# Altium integrated library ENCE461_18_2.IntLib: 16 symbols
Pins are listed as number, name and electrical type; pins without a type are passive.

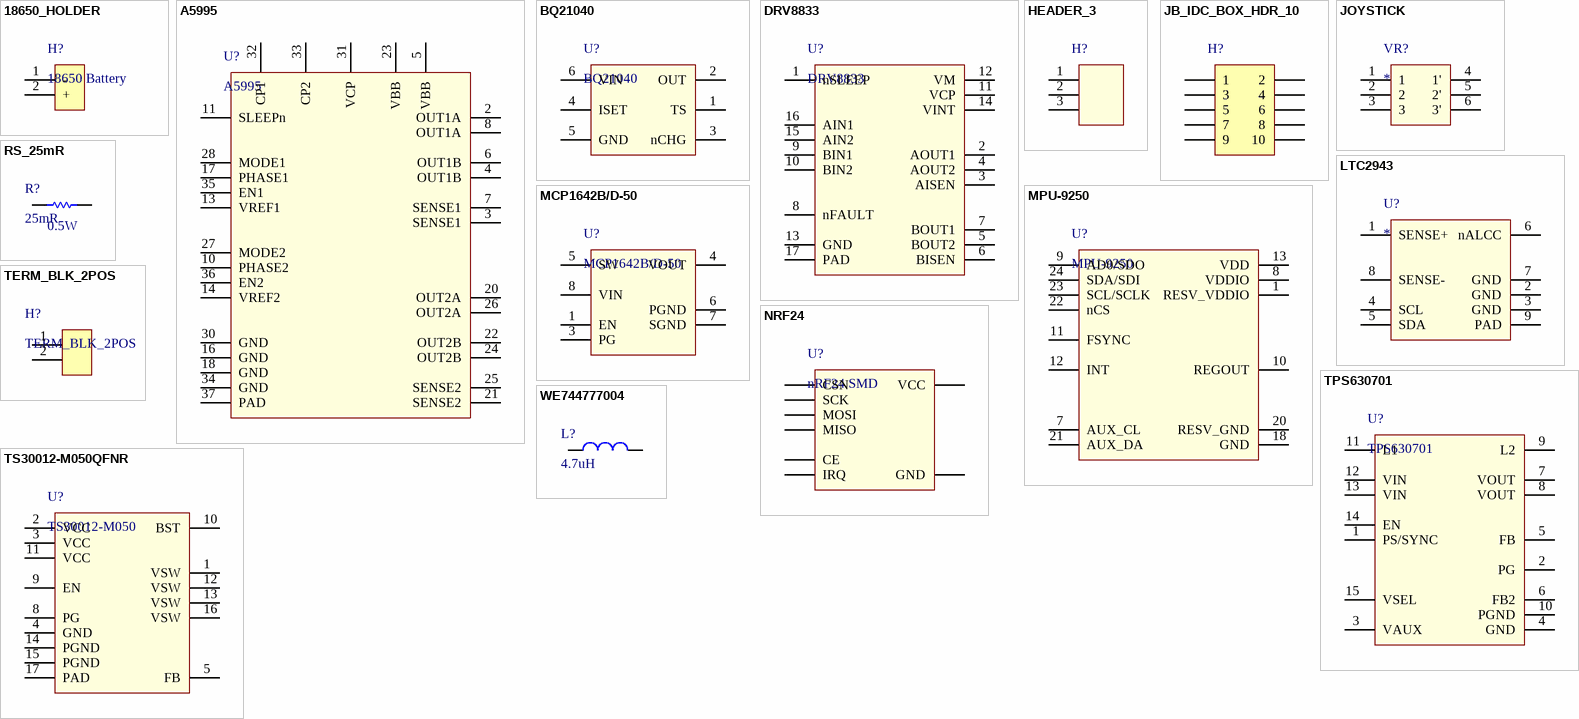
[diagram p0: symbols 18650_HOLDER to WE744777004]

## 18650_HOLDER
designator H?, comment 18650 Battery
18650 Battery Holder
footprint 18650_HOLDER
pins: 1 -, 2 +

## A5995
designator U?
Dual 3.5A Motor Driver
footprint Quad36
pins: 2 OUT1A, 3 SENSE1, 4 OUT1B, 5 VBB, 6 OUT1B, 7 SENSE1, 8 OUT1A, 10 PHASE2, 11 SLEEPn, 13 VREF1, 14 VREF2, 16 GND, 17 PHASE1, 18 GND, 20 OUT2A, 21 SENSE2, 22 OUT2B, 23 VBB, 24 OUT2B, 25 SENSE2, 26 OUT2A, 27 MODE2, 28 MODE1, 30 GND, 31 VCP, 32 CP1, 33 CP2, 34 GND, 35 EN1, 36 EN2, 37 PAD

## BQ21040
designator U?
USB Li-po/ion Charger
footprint SOT23-6 (SOT-23/SC-74A; 6 Leads; Body 3 x 3 mm, inc. leads (LxW max))
pins: 1 TS, 2 OUT, 3 nCHG, 4 ISET, 5 GND, 6 VIN

## DRV8833
designator U?
Dual H-Bridge Motor Driver 1.5A
footprint HTSOP16
pins: 1 nSLEEP, 2 AOUT1, 3 AISEN, 4 AOUT2, 5 BOUT2, 6 BISEN, 7 BOUT1, 8 nFAULT, 9 BIN1, 10 BIN2, 11 VCP, 12 VM, 13 GND, 14 VINT, 15 AIN2, 16 AIN1, 17 PAD

## HEADER_3
designator H?  (value not drawn)
3Pin Header 2.54mm spacing
footprint HEADER_3POS
pins: 1, 2, 3

## JB_IDC_BOX_HDR_10
designator H?  (value not drawn)
IDC BOX HEADER 2.54mm 10POS SMT; Manufacturer: CNC Tech; Manufacturer Part Number: 3020-10-0300-00; Connector Type: Header, Shrouded; Number of Positions: 10; Pitch: 0.100" (2.54mm); Supplier 1: Digi-Key; Contact Type: Male Pin; Number of Rows: 2; Row Spacing: 0.100" (2.54mm); Supplier: Digi-Key; Supplier Part Number 1: 1175-1621-ND; Supplier Part Number: 1175-1621-ND
footprint 3020-10-0300-00 (IDC BOX HEADER 2.54mm 10POS)
pins: 1, 2, 3, 4, 5, 6, 7, 8, 9, 10

## JOYSTICK
designator VR?
Joystick 2 x 10k linear
footprint JOYSTICK
pins: 1, 2, 3, 4 1', 5 2', 6 3'

## LTC2943
designator U?
Battery gauge
footprint DFN8
pins: 1 SENSE+, 2 GND, 3 GND, 4 SCL, 5 SDA, 6 nALCC, 7 GND, 8 SENSE-, 9 PAD

## MCP1642B/D-50
designator U?
5V Boost Converter
footprint MSOP8
pins: 1 EN, 3 PG, 4 VOUT, 5 SW, 6 PGND, 7 SGND, 8 VIN

## MPU-9250
designator U?
9 axis IMU
footprint Quad24
pins: 1 RESV_VDDIO, 7 AUX_CL, 8 VDDIO, 9 AD0/SDO, 10 REGOUT, 11 FSYNC, 12 INT, 13 VDD, 18 GND, 20 RESV_GND, 21 AUX_DA, 22 nCS, 23 SCL/SCLK, 24 SDA/SDI

## NRF24
designator U?, comment nRF24 SMD
nRF24 SMD Module
footprint NRF24
pins: 1 VCC, 2 GND, 3 CE, 4 CSN, 5 SCK, 6 MOSI, 7 MISO, 8 IRQ

## RS_25mR
designator R?, comment 25mR  Power: 0.5W
0.5W 1206 25mR Resistor
footprint RESC3216N (Chip Resistor, Body 3.2x1.6mm, IPC Medium Density)
pins: 1, 2

## TERM_BLK_2POS
designator H?
2 Position Terminal Block 7.62mm spacing
footprint TERM_BLK_2POS
pins: 1, 2

## TPS630701
designator U?
5V High efficiency single inductor buck/boost converter
footprint VQFN16
pins: 1 PS/SYNC, 2 PG, 3 VAUX, 4 GND, 5 FB, 6 FB2, 7 VOUT, 8 VOUT, 9 L2, 10 PGND, 11 L1, 12 VIN, 13 VIN, 14 EN, 15 VSEL

## TS30012-M050QFNR
designator U?, comment TS30012-M050
5V 2A Buck Regulator
footprint QFN16
pins: 1 VSW, 2 VCC, 3 VCC, 4 GND, 5 FB, 8 PG, 9 EN, 10 BST, 11 VCC, 12 VSW, 13 VSW, 14 PGND, 15 PGND, 16 VSW, 17 PAD

## WE744777004
designator L?, comment 4.7uH
4.7uH Inductor 3.2A
footprint INDUCTOR
pins: 1, 2